# Altium footprint library Molex Mini-Fit Jr 1x2.PcbLib: 1 footprints
Each footprint in its own frame and in the unit in brackets; x right, y up, seen from the top. Pads: shape width x height; smd on the part's side, far side on the other; paste and mask are expansions set on the pad; w line width, h text height; cw(c..) or ccw(c..) is an arc to the next point about the centre after c.
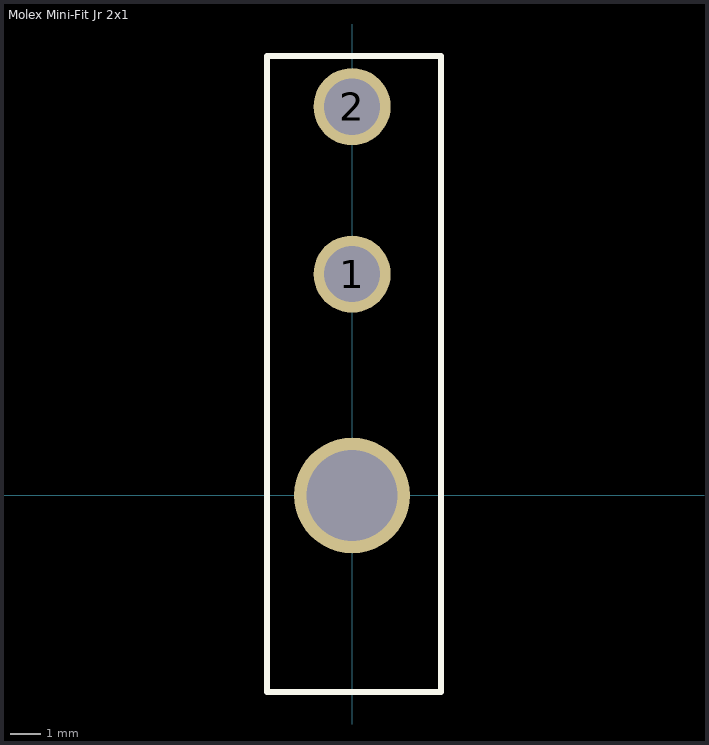
[diagram p0: the footprint, top view; thin cyan lines are the x and y axes]

## Molex Mini-Fit Jr 2x1 [mil]
pads (3):
  round 100 hole 73: 1(0,287) 2(0,504)
  round 150 hole 118: ""(0,0)
Top Overlay:
  lines w7.87: -110,-255 -110,569.88 115,569.88 115,-255 -110,-255
3D body "026013114.stp": height 448.82, standoff -141.73, extent -111.29,-259.99 117.05,524.85